# EAGLE library part SI47* (library NewSDR)
Silicon Labs Si4710/11/12/13 FM Transmitter
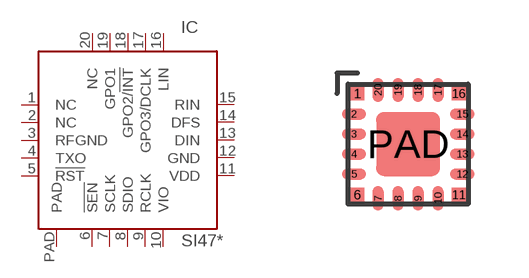
[diagram p211: symbol with the pads of QFN-20-3X3; footprint QFN-20-3X3]

Designator prefix IC

## SI4710, SI4711, SI4712, SI4713  [QFN-20-3X3]
1  NC  nc
2  NC  nc
3  RFGND  pwr
4  TXO
5  !RST  in
6  !SEN  in
7  SCLK  in
8  SDIO
9  RCLK  in
10  VIO  pwr
11  VDD  pwr
12  GND  pwr
13  DIN  in
14  DFS  in
15  RIN  pas
16  LIN  pas
17  GPO3/DCLK
18  GPO2/!INT
19  GPO1
20  NC  nc
PAD  PAD  pwr

## Footprint QFN-20-3X3 (pad centres in mm)
20-pin QFN for Si Labs
smd 0.34 x 0.34: 1 -1.265,1.265; 6 -1.265,-1.265; 11 1.265,-1.265; 16 1.265,1.265
smd 0.61 x 0.28: 2 -1.355,0.75; 3 -1.355,0.25; 4 -1.355,-0.25; 5 -1.355,-0.75; 12 1.355,-0.75; 13 1.355,-0.25; 14 1.355,0.25; 15 1.355,0.75
smd 0.28 x 0.61: 7 -0.75,-1.355; 8 -0.25,-1.355; 9 0.25,-1.355; 10 0.75,-1.355; 17 0.75,1.355; 18 0.25,1.355; 19 -0.25,1.355; 20 -0.75,1.355
smd 1.6 x 1.6: PAD 0,0